# Altium footprint library CYPCBLIB.PcbLib: 185 footprints (part 11 of 12)
Each footprint in its own frame and in the unit in brackets; x right, y up, seen from the top. Pads: shape width x height; smd on the part's side, far side on the other; paste and mask are expansions set on the pad; w line width, h text height; cw(c..) or ccw(c..) is an arc to the next point about the centre after c.
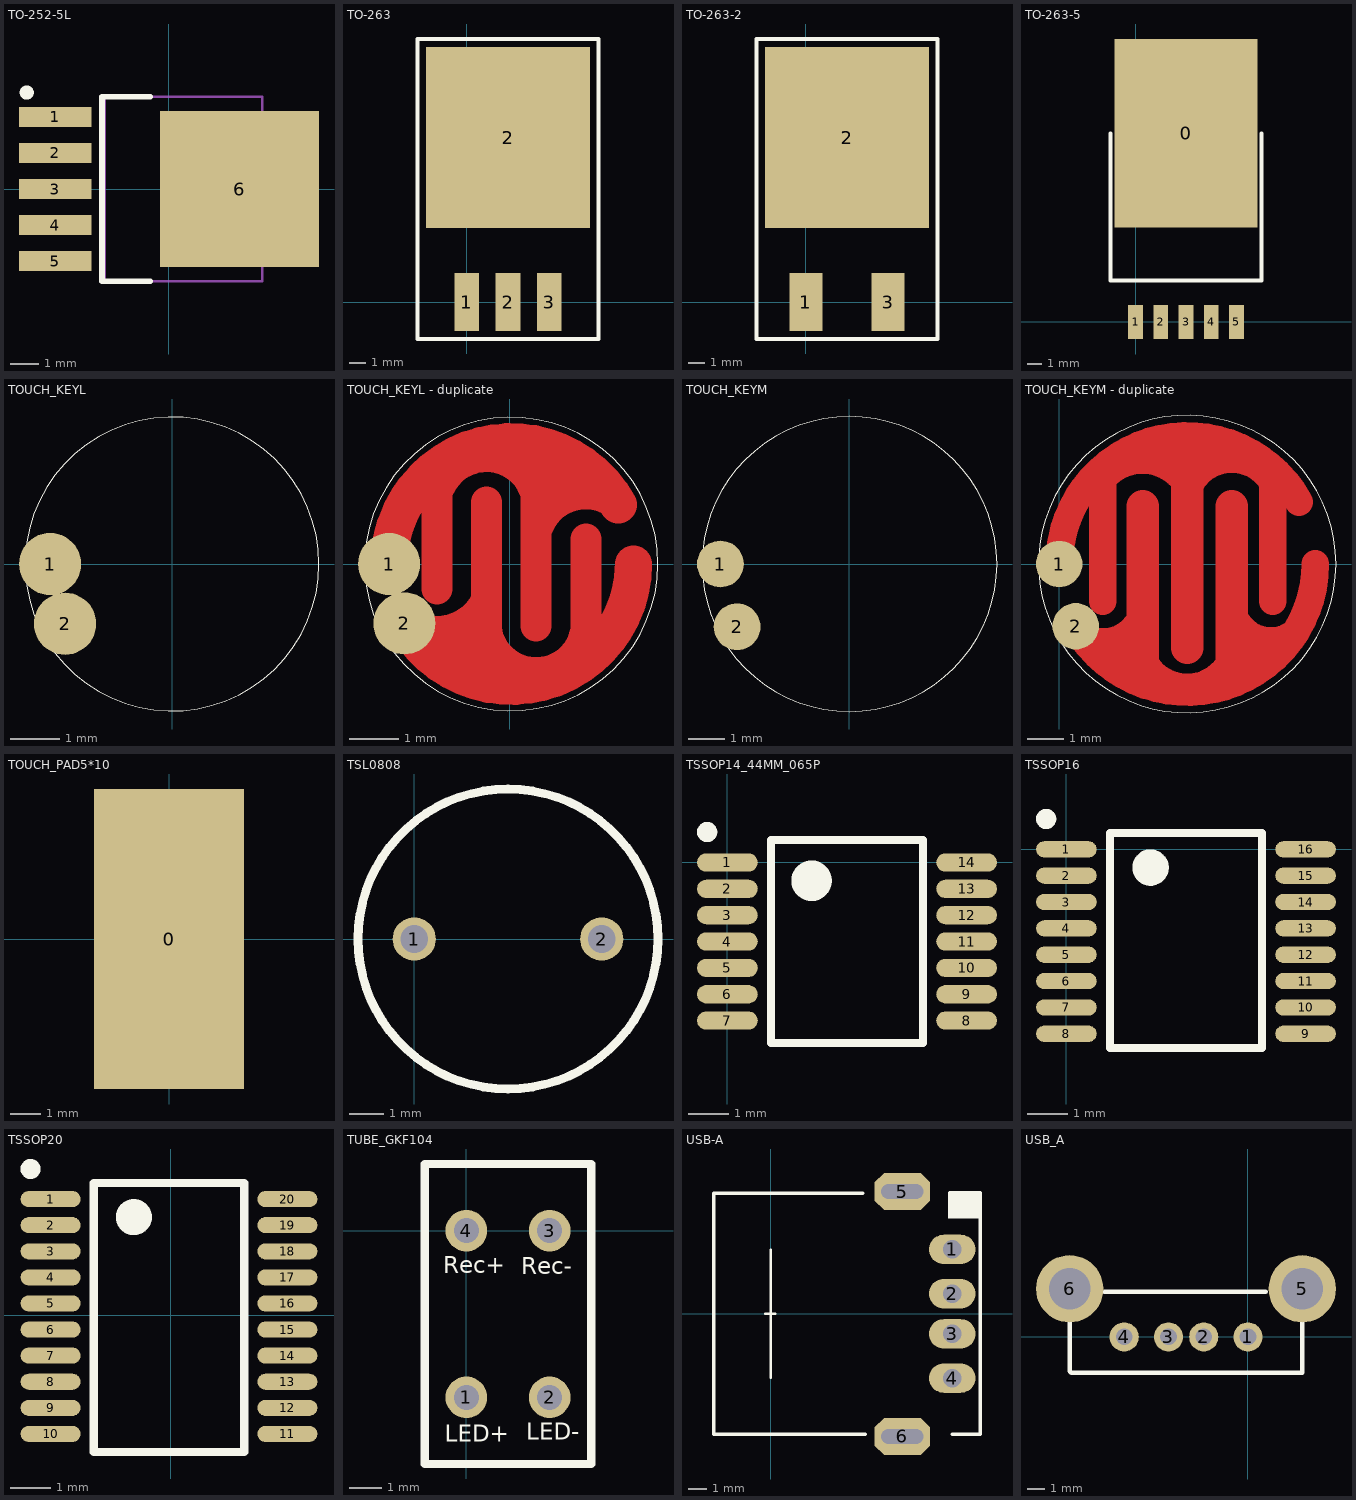
[diagram p10: the footprints below, top view; thin cyan lines are the x and y axes]

## TO-252-5L [mm]
pads (6):
  rect 2.55x0.7 smd: 1(-4,2.54) 2(-4,1.27) 3(-4,0) 4(-4,-1.27) 5(-4,-2.54)
  rect 5.6x5.5 smd: 6(2.5,0)
TopOverlay:
  circle w0.25: c-5,3.4 r0.125
  lines w0.2: -0.65,-3.25 -2.35,-3.25 -2.35,3.25 -0.65,3.25
Mechanical15:
  lines w0.1: 3.3,-2.65 3.812,-2.65 4.85,-1.499 4.85,1.499 3.812,2.65 3.3,2.65 ; -2.25,-3.25 3.3,-3.25 3.3,3.25 -2.25,3.25 -2.25,-3.25

## TO-263 [mil]
pads (4):
  rect 60x140 smd: 1(0,0) 2(100,0) 3(200,0)
  rect 400x440 smd: 2(100,400)
TopOverlay:
  lines w10: -120,-90 -120,640 320,640 320,-90 -120,-90

## TO-263-2 [mil]
pads (3):
  rect 80x140 smd: 1(0,0) 3(200,0)
  rect 400x440 smd: 2(100,400)
TopOverlay:
  lines w10: -120,-90 -120,640 320,640 320,-90 -120,-90

## TO-263-5 [mm]
pads (6):
  rect 9.652x12.7 smd: 0(3.4,12.7)
  rect 1x2.3 smd: 1(0,0) 2(1.7,0) 3(3.4,0) 4(5.1,0) 5(6.8,0)
TopOverlay:
  lines w0.254: -1.68,12.7 -1.68,2.794 8.48,2.794 8.48,12.7

## TOUCH_KEYL [mil]
pads (2):
  round 50 smd: 1(-98,0) 2(-86,-48)
TopOverlay:
  circle w1: c0,0 r118.11

## TOUCH_KEYL - duplicate [mil]
pads (2):
  round 50 smd: 1(-97,0) 2(-84.61,-47.8)
TopLayer:
  rectangle: 28.43,45 67.42,78
  lines w10: -77.95,-41.38 ccw(c-58.58,-10) -22.49,-17.6 ; -52.52,43 cw(c-18.57,45) 15.43,45 ; -11.53,-48.94 ccw(c21.43,-47) 54.38,-49 ; 27.96,21.08 cw(c61.42,15) 83.3,41.05
  lines w25: -58.58,-20 -58.58,70 ; -24.57,-49 -57.58,-58 11.43,-89 ; -18.57,-90 -18.57,50 ; -16.57,99 38.42,52 ; 21.43,-50 21.43,80 ; 61.42,-70 61.42,20
  lines w30: -97,0 cw(c1.43,0) 87.46,47.8 ; -84.61,-47.8 ccw(c1.43,0) 99.85,0
TopOverlay:
  circle w1: c1.43,0 r118.11

## TOUCH_KEYM [mil]
pads (2):
  round 50 smd: 1(-137.79,0) 2(-120,-67)
TopOverlay:
  circle w1: c0,0 r157.48

## TOUCH_KEYM - duplicate [mil]
pads (2):
  round 50 smd: 1(0,0) 2(17.8,-67)
TopLayer:
  rectangle: 63.8,99 212.79,127
  rectangle: 41.8,-106 73.8,-70
  rectangle: 198.79,-106 236.79,-69
  lines w10: 25.32,-65.54 ccw(c47.8,-40) 81.8,-39 ; 43.9,52.8 cw(c89.8,56) 135.81,56 ; 94.85,-79 ccw(c137.79,-80) 180.74,-80.98 ; 144.79,62 cw(c185.79,62) 226.79,62 ; 194.86,-42.06 ccw(c227.79,-40) 260.57,-43.86
  lines w25: 104.8,-124 109.8,-125 ; 121.8,100 148.79,100 ; 166.79,-122 172.79,-126
  lines w30: 0,0 cw(c137.79,0) 258.25,66.92 ; 17.34,-66.92 ccw(c137.79,0) 275.59,0 ; 46.8,-40 46.8,90 ; 229.79,-40 229.79,100
  lines w35: 89.8,-110 89.8,62 ; 137.79,-90 137.79,130 ; 185.79,-120 185.79,62
TopOverlay:
  circle w1: c137.79,0 r160.08

## TOUCH_PAD5*10 [mm]
pads (1):
  rect 5x10 smd: 0(0,0)

## TSL0808 [mil]
pads (2):
  round 50 hole 32: 1(0,0) 2(216.54,0)
TopOverlay:
  circle w10: c108.27,0 r173.23

## TSSOP14_44MM_065P [mm]
pads (14):
  oval 1.5x0.45 smd: 1(0,0) 2(0,-0.65) 3(0,-1.3) 4(0,-1.95) 5(0,-2.6) 6(0,-3.25) 7(0,-3.9) 8(5.9,-3.9) 9(5.9,-3.25) 10(5.9,-2.6) 11(5.9,-1.95) 12(5.9,-1.3) 13(5.9,-0.65) 14(5.9,0)
TopOverlay:
  circle w0.5: c2.075,-0.45 r0.25
  circle w0.25: c-0.5,0.75 r0.125
  lines w0.2: 1.075,-4.45 4.825,-4.45 4.825,0.55 1.075,0.55 1.075,-4.45

## TSSOP16 [mm]
pads (16):
  oval 1.5x0.4 smd: 1(0,0) 2(0,-0.65) 3(0,-1.3) 4(0,-1.95) 5(0,-2.6) 6(0,-3.25) 7(0,-3.9) 8(0,-4.55) 9(5.9,-4.55) 10(5.9,-3.9) 11(5.9,-3.25) 12(5.9,-2.6) 13(5.9,-1.95) 14(5.9,-1.3) 15(5.9,-0.65) 16(5.9,0)
TopOverlay:
  circle w0.5: c2.075,-0.45 r0.2
  circle w0.25: c-0.5,0.75 r0.125
  lines w0.2: 1.075,-4.9 4.825,-4.9 4.825,0.4 1.075,0.4 1.075,-4.9

## TSSOP20 [mm]
pads (20):
  oval 1.5x0.4 smd: 1(-2.997,2.896) 2(-2.997,2.246) 3(-2.997,1.596) 4(-2.997,0.946) 5(-2.997,0.296) 6(-2.997,-0.354) 7(-2.997,-1.004) 8(-2.997,-1.654) 9(-2.997,-2.304) 10(-2.997,-2.954) 11(2.903,-2.954) 12(2.903,-2.304) 13(2.903,-1.654) 14(2.903,-1.004) 15(2.903,-0.354) 16(2.903,0.296) 17(2.903,0.946) 18(2.903,1.596) 19(2.903,2.246) 20(2.903,2.896)
TopOverlay:
  circle w0.25: c-3.497,3.646 r0.125
  circle w0.5: c-0.922,2.446 r0.2
  lines w0.2: -1.922,-3.404 -1.922,3.296 1.828,3.296 1.828,-3.404 -1.922,-3.404

## TUBE_GKF104 [mil]
pads (4):
  round 50 hole 30: 1(0,-200) 2(100,-200) 3(100,0) 4(0,0)
TopOverlay:
  lines w10: -50,-280 -50,80 150,80 150,-280 -50,-280
  text "LED+" at -26,-253 h20
  text "Rec+" at -28,-51 h20
  text "Rec-" at 66,-52 h20
  text "LED-" at 72,-251 h20

## USB-A [mm]
pads (6):
  oval 2.54x1.6 hole 1: 1(9.881,3.505) 2(9.881,1.092) 3(9.881,-1.092) 4(9.881,-3.505)
  oct 3x2 hole 0.8 slot 2.3 at 0 deg: 5(7.163,6.655) 6(7.163,-6.68)
TopOverlay:
  rectangle: 9.652,5.194 11.405,6.591
  lines w0.127: -0.305,0 0.254,0 ; 0,-3.5 0,3.5
  lines w0.178: 5.029,6.566 -3.099,6.566 -3.099,-6.566 5.156,-6.566
  lines w0.203: 9.754,6.591 10.338,6.591 11.405,6.591 11.405,-6.566 9.881,-6.566

## USB_A [mil]
pads (6):
  round 65 hole 37: 1(0,0) 2(-98.5,0) 3(-177,0) 4(-275.6,0)
  round 150 hole 93: 5(121,107) 6(-397,107)
TopOverlay:
  lines w10: -397,107 -397,-77 -394,-80 121,-80 121,107 ; -320,100 40,100